# EAGLE library part USB3 (library con-pci_express%28pci-e%29)
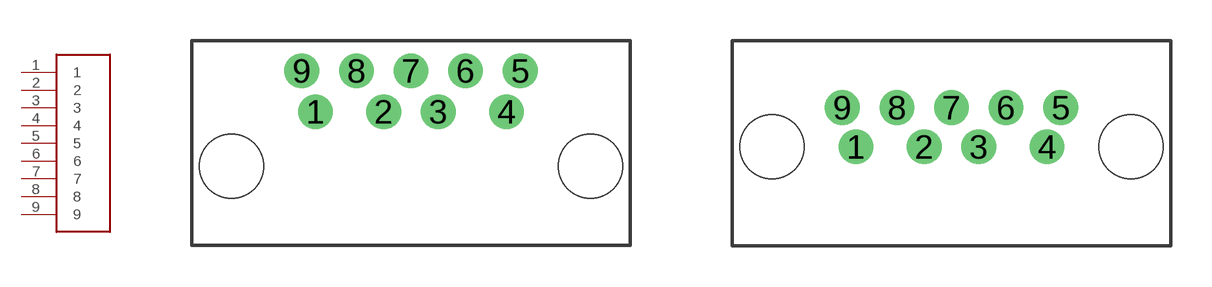
[diagram p4: symbol with the pads of USB3_FLAT; footprints USB3_FLAT, USB3_VERT]

Designator prefix -

## USB3FLAT  [USB3_FLAT]
1  1
2  2
3  3
4  4
5  5
6  6
7  7
8  8
9  9

## USB3VERT  [USB3_VERT]
Pads as for USB3_FLAT

## Footprint USB3_FLAT (pad centres in mm)
drill 0.7 pad 1.27: 1 -3.5,2; 2 -1,2; 3 1,2; 4 3.5,2; 5 4,3.5; 6 2,3.5; 7 0,3.5; 8 -2,3.5; 9 -4,3.5
hole 2.35 at -6.57,0
hole 2.35 at 6.57,0

## Footprint USB3_VERT (pad centres in mm)
drill 0.7 pad 1.27: 1 -3.5,0; 2 -1,0; 3 1,0; 4 3.5,0; 5 4,1.44; 6 2,1.44; 7 0,1.44; 8 -2,1.44; 9 -4,1.44
hole 2.35 at -6.57,0
hole 2.35 at 6.57,0